# Altium footprint library BMI088.PcbLib: 1 footprints
Each footprint in its own frame and in the unit in brackets; x right, y up, seen from the top. Pads: shape width x height; smd on the part's side, far side on the other; paste and mask are expansions set on the pad; w line width, h text height; cw(c..) or ccw(c..) is an arc to the next point about the centre after c.
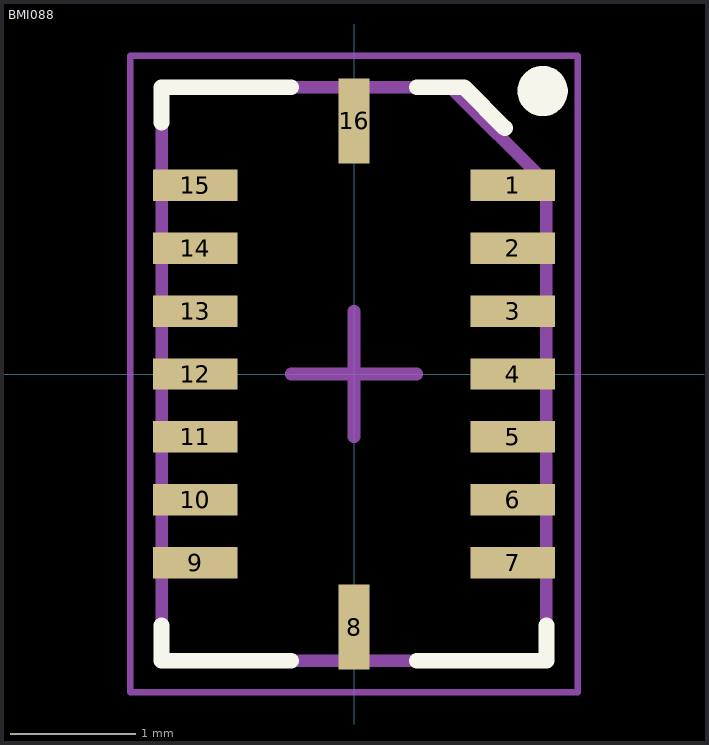
[diagram p0: the footprint, top view; thin cyan lines are the x and y axes]

## BMI088 [mm]
pads (16):
  rect 0.675x0.25 smd paste-0.03: 1(1.262,1.5) 2(1.262,1) 3(1.262,0.5) 4(1.262,0) 5(1.262,-0.5) 6(1.262,-1) 7(1.262,-1.5) 9(-1.262,-1.5) 10(-1.262,-1) 11(-1.262,-0.5) 12(-1.262,0) 13(-1.262,0.5) 14(-1.262,1) 15(-1.262,1.5)
  rect 0.25x0.675 smd paste-0.03: 8(0,-2.013) 16(0,2.013)
Top Overlay:
  circle w0.2: c1.5,2.25 r0.1
  lines w0.127: -1.53,-2 -1.53,-2.28 -0.5,-2.28 ; -1.53,2 -1.53,2.28 -0.5,2.28 ; 0.5,-2.28 1.53,-2.28 1.53,-2 ; 0.5,2.28 0.875,2.28 1.2,1.955
Mechanical 1:
  lines w0.1: -1.53,-2.28 -1.53,2.28 0.768,2.28 1.53,1.518 1.53,-2.28 -1.53,-2.28
  text ".Designator" at -1.375,-0.158 h0.65
Mechanical 2:
  lines w0.05: -1.78,-2.53 -1.78,2.53 1.78,2.53 1.78,-2.53 -1.78,-2.53
  lines w0.1: -0.5,0 0.5,0 ; 0,-0.5 0,0.5
3D body "BMI088--3DModel-STEP-56544.STEP": height 1, standoff 0, extent -1.5,-2.25 1.5,2.25